# Altium integrated library SIT1602BI-11-18E-24.000000G.IntLib: 1 symbol
Pins are listed as number, name and electrical type; pins without a type are passive.

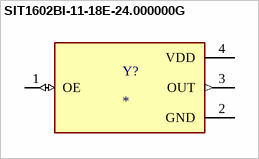
[diagram p0: symbol SIT1602BI-11-18E-24.000000G]

## SIT1602BI-11-18E-24.000000G
designator Y?
Oscillator MEMS 24MHz Â±20ppm (Stability) 15pF HCMOS/LVCMOS 55% 1.8V 4-Pin PQFN SMD T/R; MF: SiTime; MP: SIT1602BI-11-18E-24.000000G; SnapEDA_Link: https://www.snapeda.com/parts/SIT1602BI-11-18E-24.000000G/SiTime/view-part/?ref=snap; Package: None; Value: *; Check_prices: https://www.snapeda.com/parts/SIT1602BI-11-18E-24.000000G/SiTime/view-part/?ref=eda
footprint OSC_SIT1602BI-11-18E-24.000000G
pins: 1 OE (io), 2 GND (power), 3 OUT (out), 4 VDD (power)